# EAGLE library part RPULUX (library Documentation)
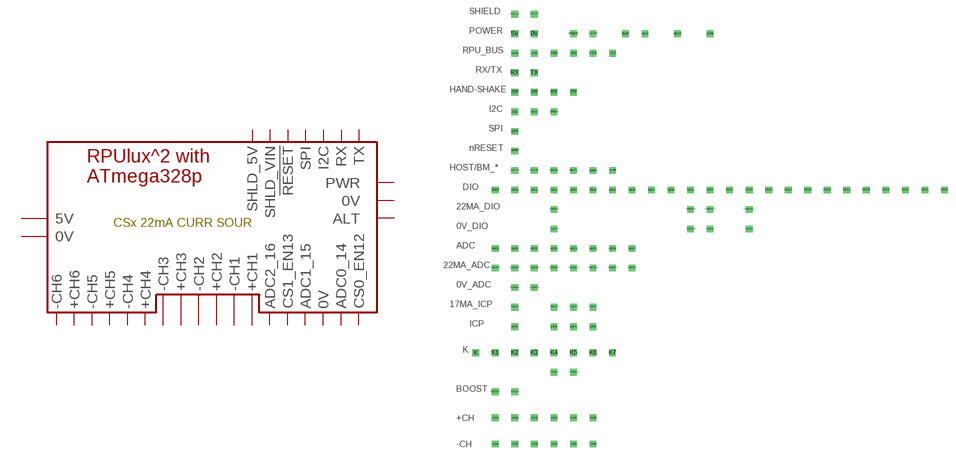
[diagram p10: symbol with the pads of WITH_RPU_NAMES; footprint WITH_RPU_NAMES]

Designator prefix -

## RPULUX  [WITH_RPU_NAMES]
0V  0V
0V@DIO2  0V
0V@PWR  0V
5V  5V
22MA@ADC0  CS0_EN12
22MA@ADC1  CS1_EN13
!RESET  !RESET
+CH1  +CH1
+CH2  +CH2
+CH3  +CH3
+CH4  +CH4
+CH5  +CH5
+CH6  +CH6
-CH1  -CH1
-CH2  -CH2
-CH3  -CH3
-CH4  -CH4
-CH5  -CH5
-CH6  -CH6
ADC0  ADC0_14
ADC1  ADC1_15
ADC2  ADC2_16
AUX  ALT
I2C  I2C
PWR  PWR
RX  RX
SHLD_5V  SHLD_5V
SHLD_VOUT  SHLD_VIN
SPI  SPI
TX  TX

## Footprint WITH_RPU_NAMES (pad centres in mm)
drill 0.8 square: 0V -3.81,19.05; 0V@ADC1 -7.62,-30.48; 0V@ADC2 -3.81,-30.48; 0V@DIO2 0,-19.05; 0V@DIO9 26.67,-19.05; 0V@DIO10 30.48,-19.05; 0V@DIO12 38.1,-19.05; 0V@PWR 7.62,19.05; 5V -7.62,19.05; 17MA@ICP1 -7.62,-34.29; 17MA@ICP3 0,-34.29; 17MA@ICP4 3.81,-34.29; 17MA@ICP5 7.62,-34.29; 22MA@ADC0 -11.43,-26.67; 22MA@ADC1 -7.62,-26.67; 22MA@ADC2 -3.81,-26.67; 22MA@ADC3 0,-26.67; 22MA@ADC4 3.81,-26.67; 22MA@ADC5 7.62,-26.67; 22MA@ADC6 11.43,-26.67; 22MA@ADC7 15.24,-26.67; 22MA@DIO2 0,-15.24; 22MA@DIO9 26.67,-15.24; 22MA@DIO10 30.48,-15.24; 22MA@DIO12 38.1,-15.24; !CTS 3.81,7.62; !DSR -7.62,7.62; !DTR -3.81,7.62; !RESET -7.62,-3.81; !RTS 0,7.62; +CH1 -11.43,-55.88; +CH2 -7.62,-55.88; +CH3 -3.81,-55.88; +CH4 0,-55.88; +CH5 3.81,-55.88; +CH6 7.62,-55.88; +DTR -7.62,15.24; +RX 0,15.24; +TX 7.62,15.24; -BAT 17.78,19.05; -CH1 -11.43,-60.96; -CH2 -7.62,-60.96; -CH3 -3.81,-60.96; -CH4 0,-60.96; -CH5 3.81,-60.96; -CH6 7.62,-60.96; -DTR -3.81,15.24; -RX 3.81,15.24; -TX 11.43,15.24; ADC0 -11.43,-22.86; ADC1 -7.62,-22.86; ADC2 -3.81,-22.86; ADC3 0,-22.86; ADC4 3.81,-22.86; ADC5 7.62,-22.86; ADC6 11.43,-22.86; ADC7 15.24,-22.86; AUX 24.13,19.05; BAT 13.97,19.05; BM-RX 0,-7.62; BM-TX 3.81,-7.62; BM_!RST! 11.43,-7.62; BOOST -11.43,-50.8; BOOST_IN -7.62,-50.8; COM@K4 0,-46.99; COM@K5 3.81,-46.99; DIO -11.43,-11.43; DIO0 -7.62,-11.43; DIO1 -3.81,-11.43; DIO2 0,-11.43; DIO3 3.81,-11.43; DIO4 7.62,-11.43; DIO5 11.43,-11.43; DIO6 15.24,-11.43; DIO7 19.05,-11.43; DIO8 22.86,-11.43; DIO9 26.67,-11.43; DIO10 30.48,-11.43; DIO11 34.29,-11.43; DIO12 38.1,-11.43; DIO13 41.91,-11.43; DIO14 45.72,-11.43; DIO15 49.53,-11.43; DIO16 53.34,-11.43; DIO17 57.15,-11.43; DIO18 60.96,-11.43; DIO19 64.77,-11.43; DIO20 68.58,-11.43; DIO21 72.39,-11.43; DIO22 76.2,-11.43; HOST-RX -3.81,-7.62; HOST-TX -7.62,-7.62; I2C -7.62,3.81; I2C0 -3.81,3.81; ICP1 -7.62,-38.1; ICP3 0,-38.1; ICP4 3.81,-38.1; ICP5 7.62,-38.1; K -15.24,-43.18; K1 -11.43,-43.18; K2 -7.62,-43.18; K3 -3.81,-43.18; K4 0,-43.18; K5 3.81,-43.18; K6 7.62,-43.18; K7 11.43,-43.18; PWR 3.81,19.05; RX -7.62,11.43; SHDN 7.62,-7.62; SHLD_5V -7.62,22.86; SHLD_VOUT -3.81,22.86; SMBUS 0,3.81; SPI -7.62,0; TX -3.81,11.43; VIN 30.48,19.05